# EAGLE library part SENSOR_LIS3DHTR (library akita)
ST micro, 3-axls accelerometer
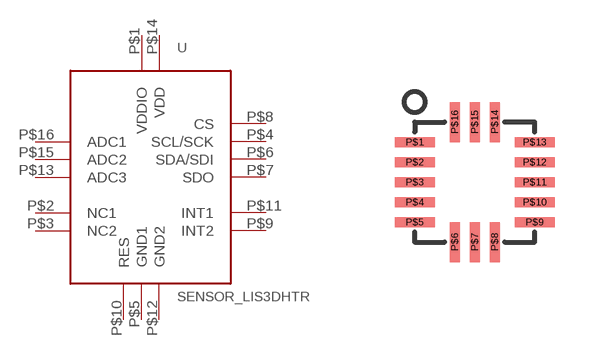
[diagram p58: symbol with the pads of LGA16; footprint LGA16]

Designator prefix -

## SENSOR_LIS3DHTR  [LGA16]
P$1  VDDIO
P$2  NC1
P$3  NC2
P$4  SCL/SCK
P$5  GND1
P$6  SDA/SDI
P$7  SDO
P$8  CS
P$9  INT2
P$10  RES
P$11  INT1
P$12  GND2
P$13  ADC3
P$14  VDD
P$15  ADC2
P$16  ADC1

## Footprint LGA16 (pad centres in mm)
smd 1 x 0.25: P$1 -1.5,1; P$2 -1.5,0.5; P$3 -1.5,0; P$4 -1.5,-0.5; P$5 -1.5,-1; P$9 1.5,-1; P$10 1.5,-0.5; P$11 1.5,0; P$12 1.5,0.5; P$13 1.5,1
smd 0.25 x 1: P$6 -0.5,-1.5; P$7 0,-1.5; P$8 0.5,-1.5; P$14 0.5,1.5; P$15 0,1.5; P$16 -0.5,1.5